# Altium footprint library CONN-TH_726386-2.PcbLib: 1 footprints
Each footprint in its own frame and in the unit in brackets; x right, y up, seen from the top. Pads: shape width x height; smd on the part's side, far side on the other; paste and mask are expansions set on the pad; w line width, h text height; cw(c..) or ccw(c..) is an arc to the next point about the centre after c.
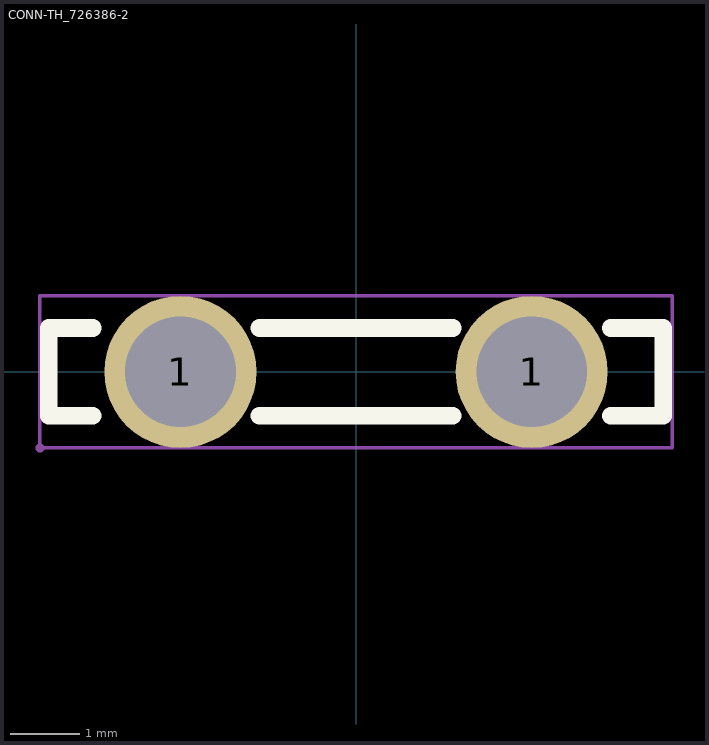
[diagram p0: the footprint, top view; thin cyan lines are the x and y axes]

## CONN-TH_726386-2 [mm]
pads (2):
  round 2.2 hole 1.6: 1(-2.54,0) 1(2.54,0)
Top Overlay:
  lines w0.254: -3.81,-0.635 -4.445,-0.635 -4.445,0.635 -3.81,0.635 ; -1.397,-0.635 1.397,-0.635 ; -1.397,0.635 1.397,0.635 ; 3.683,-0.635 4.445,-0.635 4.445,0.635 3.683,0.635
Mechanical 15:
  region: -4.512,-1.1 -4.512,-1.125 -4.547,-1.16 -4.597,-1.16 -4.632,-1.125 -4.632,-1.1 -4.632,-1.075 -4.597,-1.04 -4.547,-1.04 -4.512,-1.075 -4.512,-1.1
  region: 3.24,0 3.24,-0.092 3.192,-0.27 3.1,-0.43 2.97,-0.56 2.81,-0.652 2.632,-0.7 2.448,-0.7 2.27,-0.652 2.11,-0.56 1.98,-0.43 1.888,-0.27 1.84,-0.092 1.84,0 1.84,0.092 1.888,0.27 1.98,0.43 2.11,0.56 2.27,0.652 2.448,0.7 2.632,0.7 2.81,0.652 2.97,0.56 3.1,0.43 3.192,0.27 3.24,0.092 3.24,0
  region: -1.84,0 -1.84,-0.092 -1.888,-0.27 -1.98,-0.43 -2.11,-0.56 -2.27,-0.652 -2.448,-0.7 -2.632,-0.7 -2.81,-0.652 -2.97,-0.56 -3.1,-0.43 -3.192,-0.27 -3.24,-0.092 -3.24,0 -3.24,0.092 -3.192,0.27 -3.1,0.43 -2.97,0.56 -2.81,0.652 -2.632,0.7 -2.448,0.7 -2.27,0.652 -2.11,0.56 -1.98,0.43 -1.888,0.27 -1.84,0.092 -1.84,0
  lines w0.051: -4.572,-1.1 -4.572,1.1 4.572,1.1 4.572,-1.1 -4.572,-1.1